# Altium schematic symbol library Gravix-TitleBlock.SchLib: 2 symbols
Pins are listed as number, name and electrical type; pins without a type are passive.

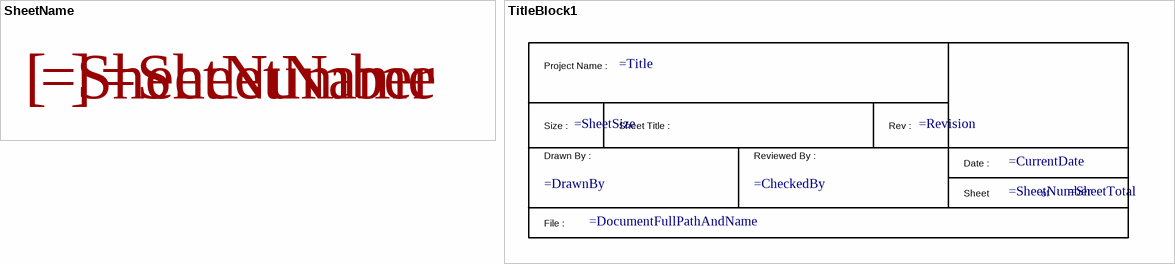
[diagram p0: symbols SheetName to TitleBlock1]

## SheetName
designator *  (value not drawn)  (graphical)
text: [; ]

## TitleBlock1
designator *  (value not drawn)  (graphical)
text: Project Name :; Size :; Sheet Title :; Rev :; Drawn By :; Reviewed By :; Date :; Sheet; of; File :